# EAGLE library part LTC4150 (library U-Linear)
COULOMB COUNTER LTQW [LINEAR,LTC4150CMS] COULOMB COUNTER 10MSOP
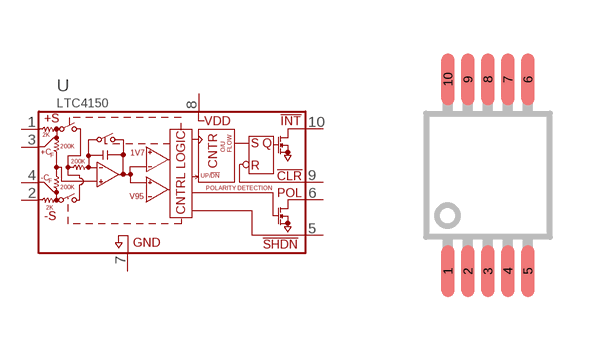
[diagram p1: symbol with the pads of MSOP10; footprint MSOP10]

Designator prefix U

## LTC4150MSOP10  [MSOP10]
1  SENSE+  in
2  SENSE-  in
3  CF+  pas
4  CF-  pas
5  !SHDN  in
6  POL  out
7  GND  pwr
8  VDD  pwr
9  !CLR  in
10  !INT  out

## Footprint MSOP10 (pad centres in mm)
MSOP10, 10-Lead, 0.118" Wide, Miniature Small Outline Package WARNING MSOP10 spacing is not same as MSOP8 http://www.diodes.com/_files/zetex_files/pack/MSOP10.pdf http://cds.linear.com/docs/en/packaging/05081664_I_MSE.pdf Pad: 0.325 x 1.3mm Spacing: 0.5mm
smd 0.325 x 1.3: 1 -1,-2.4; 2 -0.5,-2.4; 3 0,-2.4; 4 0.5,-2.4; 5 1,-2.4; 6 1,2.4; 7 0.5,2.4; 8 0,2.4; 9 -0.5,2.4; 10 -1,2.4